# EAGLE library part MOLEX_95003_V_RJ45 (library molex_95003)
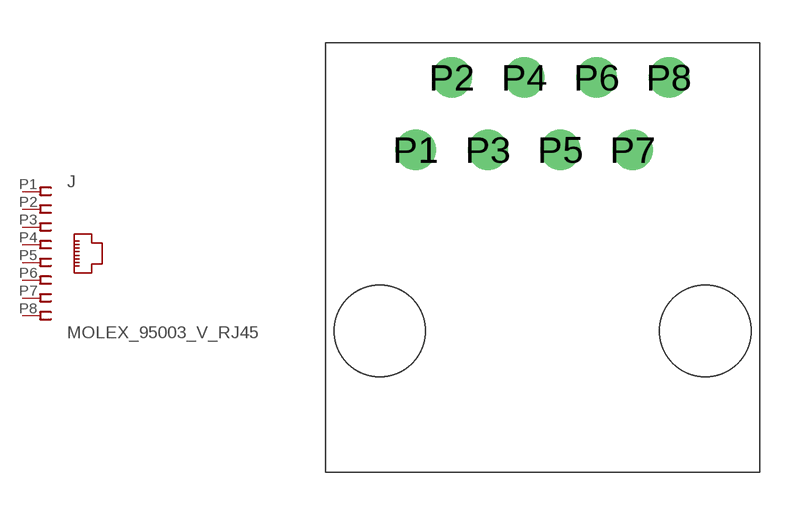
[diagram p0: symbol with the pads of 95503-2881; footprint 95503-2881]

Designator prefix J

## MOLEX_95003_V_RJ45  [95503-2881]
P1  1  pas
P2  2  pas
P3  3  pas
P4  4  pas
P5  5  pas
P6  6  pas
P7  7  pas
P8  8  pas

## Footprint 95503-2881 (pad centres in mm)
drill 0.9: P1 -4.455,8.36; P2 -3.185,10.9; P3 -1.915,8.36; P4 -0.645,10.9; P5 0.625,8.36; P6 1.895,10.9; P7 3.165,8.36; P8 4.435,10.9
hole 3.2 at -5.72,2
hole 3.2 at 5.71,2